# EAGLE library part DS1881 (library analog-devices)
Digital Potentiometer 64-tap Logarithmic
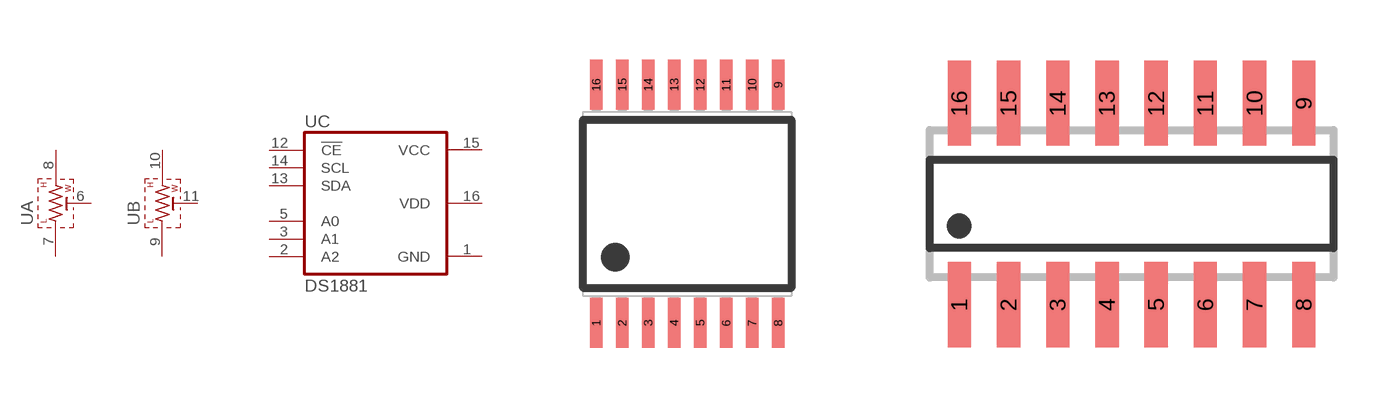
[diagram p95: symbol with the pads of TSSOP16; footprints TSSOP16, SO16]

Designator prefix U; gates A=DIGI-POT-HWL B=DIGI-POT-HWL C=DS881

## DS1881E  [TSSOP16]
1  C:GND  pwr
2  C:A2  in
3  C:A1  in
5  C:A0  in
6  A:W  pas
7  A:L  pas
8  A:H  pas
9  B:L  pas
10  B:H  pas
11  B:W  pas
12  C:!CE!
13  C:SDA  in
14  C:SCL  in
15  C:VCC  pwr
16  C:VDD  pwr

## DS1881Z  [SO16]
Pads as for TSSOP16

## Footprint TSSOP16 (pad centres in mm)
Thin Shrink Small Outline Plastic 16
smd 0.31 x 1.25: 1 -2.275,-2.98; 2 -1.625,-2.98; 3 -0.975,-2.98; 4 -0.325,-2.98; 5 0.325,-2.98; 6 0.975,-2.98; 7 1.625,-2.98; 8 2.275,-2.98; 9 2.275,2.98; 10 1.625,2.98; 11 0.975,2.98; 12 0.325,2.98; 13 -0.325,2.98; 14 -0.975,2.98; 15 -1.625,2.98; 16 -2.275,2.98

## Footprint SO16 (pad centres in mm)
SMALL OUTLINE INTEGRATED CIRCUIT body 3.9 mm/JEDEC MS-012AC
smd 0.6 x 2.2: 1 -4.445,-2.6; 2 -3.175,-2.6; 3 -1.905,-2.6; 4 -0.635,-2.6; 5 0.635,-2.6; 6 1.905,-2.6; 7 3.175,-2.6; 8 4.445,-2.6; 9 4.445,2.6; 10 3.175,2.6; 11 1.905,2.6; 12 0.635,2.6; 13 -0.635,2.6; 14 -1.905,2.6; 15 -3.175,2.6; 16 -4.445,2.6